# Altium schematic symbol library Diode.SchLib: 4 symbols
Pins are listed as number, name and electrical type; pins without a type are passive.

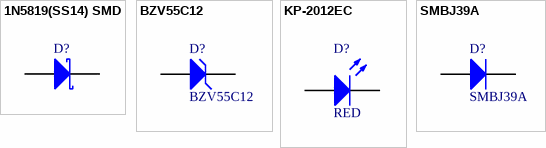
[diagram p0: symbols 1N5819(SS14) SMD to SMBJ39A]

## 1N5819(SS14) SMD
designator D?  (value not drawn)
Schottky Diode; Published: 8-Jun-2000; LatestRevisionDate: 17-Jul-2002; LatestRevisionNote: Re-released for DXP Platform.; PackageReference: SMB; Publisher: Altium Limited; PackageDescription: DO-214-AA/SMB; 2 C-Bend Leads; Body 5.3 x 3.6 mm, inc. leads (LxW); Code_JEDEC: DO-214-AA; Supplier: Comet; Supplier name: 1N5819(SS14) SMD; Name: 1N5819
signal-integrity model D Schottky
footprint DO-214AC
pins: A, K

## BZV55C12
designator D?
Zener 500 mW 5% 12V minimelf; Published: 8-Jun-2000; LatestRevisionDate: 17-Jul-2002; LatestRevisionNote: Re-released for DXP Platform.; PackageReference: SOD80C; Publisher: Altium Limited; PackageDescription: Diode, Thru-Hole; 2 Leads; 0.7 in Pin Spacing; Supplier: http://store.comet.bg/Catalogue/Product/24863/
signal-integrity model D Zener
footprint SOD80C; pin to pad 1>A 2>K
pins: 1 A, 2 K

## KP-2012EC
designator D?, comment RED
LED 0805 RED; Published: 8-Jun-2000; LatestRevisionDate: 08-Jul-2005; LatestRevisionNote: Mech Layer 1 removed.; Publisher: Altium Limited; PackageDescription: LED 0805
footprint 0805
signal-integrity model LED (LED 0805 Red)
pins: A, K

## SMBJ39A
designator D?
Transil Diode 37.7V; Name: SM6T39A; Published: 8-Jun-2000; LatestRevisionDate: 17-Jul-2002; LatestRevisionNote: Re-released for DXP Platform.; PackageReference: SMB; Publisher: Altium Limited; PackageDescription: SMB; Supplier: Comet; Supplier name: SM6T39A
footprint SMB
pins: A, K